# EAGLE library part SWITCH,DP4T (library QuantumOptics)
DP4T switch
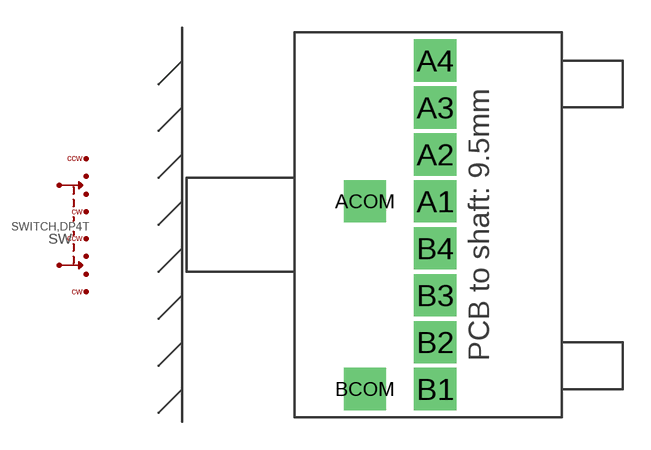
[diagram p162: symbol with the pads of SWITCH,DP4T; footprint SWITCH,DP4T]

Designator prefix SW

## SWITCH,DP4T-C2P0204N-A  [SWITCH,DP4T]
A1  A1(CW)
A2  A2
A3  A3
A4  A4(CCW)
ACOM  ACOM
B1  B1(CW)
B2  B2
B3  B3
B4  B4(CW)
BCOM  BCOM

## Footprint SWITCH,DP4T (pad centres in mm)
Electroswitch C2P0204N-A, DP4T RA PCB
drill 1.181 pad 2.286 square: A1 0,1.27; A2 0,3.81; A3 0,6.35; A4 0,8.89; ACOM -3.81,1.27; B1 0,-8.89; B2 0,-6.35; B3 0,-3.81; B4 0,-1.27; BCOM -3.81,-8.89